# Altium schematic symbol library MF-DIODES.SchLib: 4 symbols
Pins are listed as number, name and electrical type; pins without a type are passive.

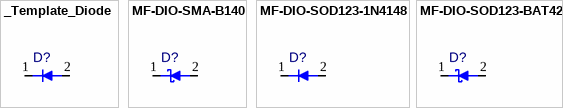
[diagram p0: symbols _Template_Diode to MF-DIO-SOD123-BAT42]

## _Template_Diode
designator D?  (value not drawn)
Type: *; Operating Temperature Range: *; RoHS: *; Voltage Rating: *; Package: *; ComponentLink1Description: Datasheet; ComponentLink1URL: *; ComponentLink2Description: Supplier Link 1; ComponentLink2URL: *; Supplier 1: Macrofab; Supplier Part Number 1: *; Manufacturer 1: *; Manufacturer Part Number 1: *; Current Rating: *; Forward Current: *; Forward Voltage: *; Mount: *; Number of Pins: *; Reverse Current: *
pins: 1 K "- Cathode", 2 A "+ Anode"

## MF-DIO-SMA-B140
designator D?  (value not drawn)
Schottky Diode 40V 1A SMA B140; Manufacturer 1: Diodes; Manufacturer Part Number 1: B140-13-F; Forward Voltage: 0.5V; Reverse Current: 500 uA; Type: *; Operating Temperature Range: - 65 C to + 150 C; RoHS: Compliant; Voltage Rating: 40V; Package: SMA; ComponentLink1Description: Datasheet; ComponentLink1URL: https://s3.amazonaws.com/devpublic1/datasheets/ds13002-60388.pdf; ComponentLink2Description: Supplier Link 1; ComponentLink2URL: https://factory.macrofab.com/part/MF-DIO-SMA-B140; Supplier 1: Macrofab; Supplier Part Number 1: MF-DIO-SMA-B140; Current Rating: 1 A; Forward Current: 1A; Mount: SMT; Number of Pins: 2
footprint SMA (SODFL, 2-Leads, Body 2.61x5.20mm, IPC Medium Density)
pins: 1 K "- Cathode", 2 A "+ Anode"

## MF-DIO-SOD123-1N4148
designator D?  (value not drawn)
Switching Diode General Purpose 100volt 500mA SOD-123; Manufacturer 1: Vishay; Manufacturer Part Number 1: 1N4148W-E3-08; Type: General Purpose Switching Diode; Voltage Rating: 100V; Forward Current: 150 mA; Forward Voltage: 1.2 V; Operating Temperature Range: - 65 C to + 150 C; RoHS: Compliant; Package: SOD-123; ComponentLink1Description: Datasheet; ComponentLink1URL: https://s3.amazonaws.com/devpublic1/datasheets/1n4148w-269644.pdf; ComponentLink2Description: Supplier Link 1; ComponentLink2URL: https://factory.macrofab.com/part/MF-DIO-SOD123-1N4148; Supplier 1: Macrofab; Supplier Part Number 1: MF-DIO-SOD123-1N4148; Mount: SMT; Number of Pins: 2
footprint SOD-123 (SODFL, 2-Leads, Body 1.55x3.70mm, IPC Medium Density)
pins: 1 K "- Cathode", 2 A "+ Anode"

## MF-DIO-SOD123-BAT42
designator D?  (value not drawn)
BAT42 Series 30 V 200 mA Small Signal Schottky Diode SOD-123; Manufacturer 1: Vishay; Manufacturer Part Number 1: BAT42W-E3-08; Voltage Rating: 30; Forward Current: 200 mA; Reverse Current: 0.5 uA; Forward Voltage: 650 mV; Type: Schottky; Operating Temperature Range: - 55 C to + 125 C; Number of Pins: 2; RoHS: Compliant; Package: SOD-123; ComponentLink1Description: Datasheet; ComponentLink1URL: https://s3.amazonaws.com/mfprodpublic/datasheets/bat42w-10309.pdf; ComponentLink2Description: Supplier Link 1; ComponentLink2URL: https://factory.macrofab.com/part/MF-DIO-SOD123-BAT42; Supplier 1: Macrofab; Supplier Part Number 1: MF-DIO-SOD123-BAT42; Mount: SMT; Current Rating: 200 mA
footprint SOD-123 (SODFL, 2-Leads, Body 1.55x3.70mm, IPC Medium Density)
pins: 1 K "- Cathode", 2 A "+ Anode"